# Altium footprint library Lib Pcb.PcbLib: 84 footprints (part 3 of 6)
Each footprint in its own frame and in the unit in brackets; x right, y up, seen from the top. Pads: shape width x height; smd on the part's side, far side on the other; paste and mask are expansions set on the pad; w line width, h text height; cw(c..) or ccw(c..) is an arc to the next point about the centre after c.
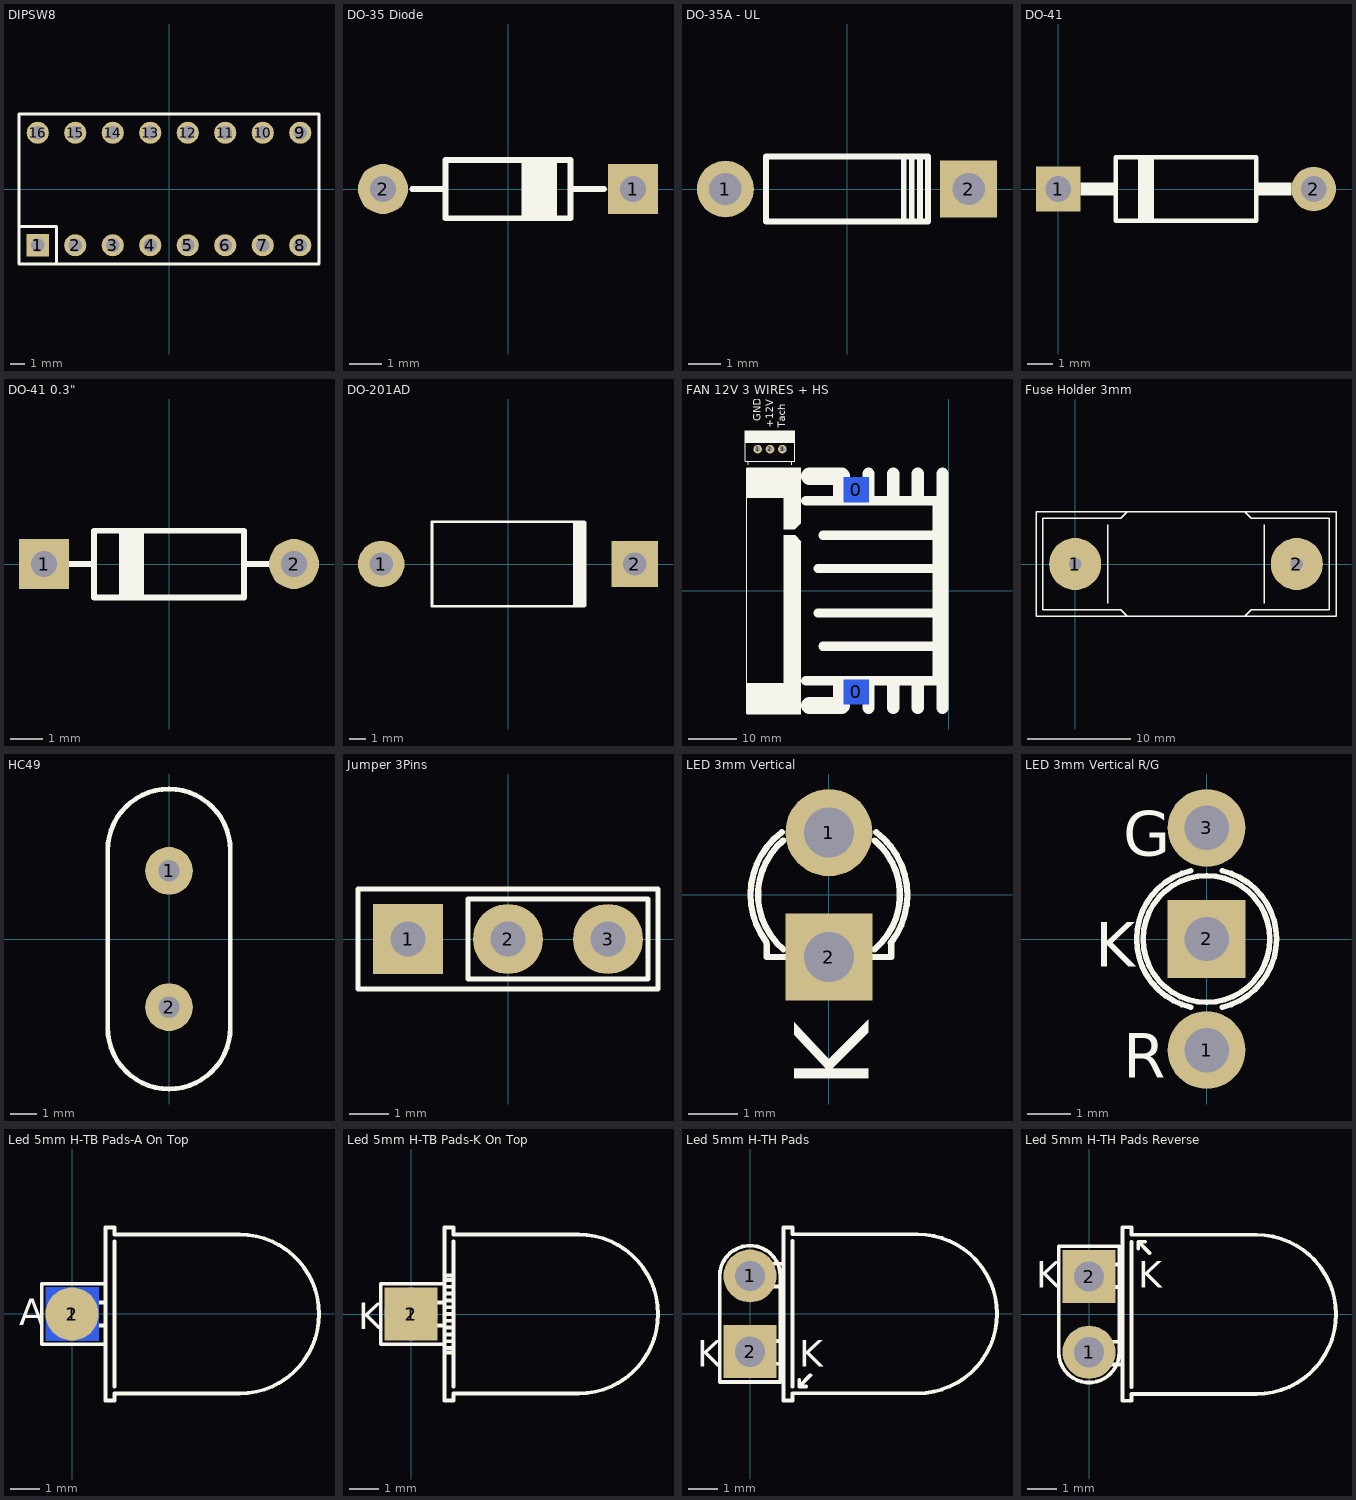
[diagram p2: the footprints below, top view; thin cyan lines are the x and y axes]

## DIPSW8 [mm] "DIP Switch 8 pos"
height 7.62
pads (16):
  rect 1.5x1.5 hole 0.9: 1(-8.89,-3.81)
  round 1.5 hole 0.9: 2(-6.35,-3.81) 3(-3.81,-3.81) 4(-1.27,-3.81) 5(1.27,-3.81) 6(3.81,-3.81) 7(6.35,-3.81) 8(8.89,-3.81) 9(8.89,3.81) 10(6.35,3.81) 11(3.81,3.81) 12(1.27,3.81) 13(-1.27,3.81) 14(-3.81,3.81) 15(-6.35,3.81) 16(-8.89,3.81)
Top Overlay:
  lines w0.178: -10.16,-2.54 -7.62,-2.54 -7.62,-5.08 -7.874,-5.08 ; -10.16,-5.08 -10.16,5.08 10.16,5.08 10.16,-5.08 -10.16,-5.08
3D body: height 7.75, standoff 7.62, extent 8.382,1.905 8.509,2.413
3D body: height 7.75, standoff 7.62, extent 8.636,1.905 8.763,2.413
3D body: height 7.75, standoff 7.62, extent 8.89,1.905 9.017,2.413
3D body: height 7.75, standoff 7.62, extent 9.271,1.905 9.398,2.413
3D body: height 7.75, standoff 7.62, extent 8.89,1.905 9.398,2.413
3D body: height 7.75, standoff 7.62, extent 8.509,1.905 8.636,2.032
3D body: height 7.75, standoff 7.62, extent 8.509,2.286 8.636,2.413
3D body: height 7.75, standoff 7.62, extent 5.842,1.905 5.969,2.413
3D body: height 7.75, standoff 7.62, extent 6.096,1.905 6.223,2.413
3D body: height 7.75, standoff 7.62, extent 6.35,1.905 6.477,2.413
3D body: height 7.75, standoff 7.62, extent 6.731,1.905 6.858,2.413
3D body: height 7.75, standoff 7.62, extent 6.35,1.905 6.858,2.413
3D body: height 7.75, standoff 7.62, extent 5.969,1.905 6.096,2.032
3D body: height 7.75, standoff 7.62, extent 5.969,2.286 6.096,2.413
3D body: height 7.75, standoff 7.62, extent 3.302,1.905 3.429,2.413
3D body: height 7.75, standoff 7.62, extent 3.556,1.905 3.683,2.413
3D body: height 7.75, standoff 7.62, extent 3.81,1.905 3.937,2.413
3D body: height 7.75, standoff 7.62, extent 4.191,1.905 4.318,2.413
3D body: height 7.75, standoff 7.62, extent 3.81,1.905 4.318,2.413
3D body: height 7.75, standoff 7.62, extent 3.429,1.905 3.556,2.032
3D body: height 7.75, standoff 7.62, extent 3.429,2.286 3.556,2.413
3D body: height 7.75, standoff 7.62, extent 0.762,1.905 0.889,2.413
3D body: height 7.75, standoff 7.62, extent 1.016,1.905 1.143,2.413
3D body: height 7.75, standoff 7.62, extent 1.27,1.905 1.397,2.413
3D body: height 7.75, standoff 7.62, extent 1.651,1.905 1.778,2.413
3D body: height 7.75, standoff 7.62, extent 1.27,1.905 1.778,2.413
3D body: height 7.75, standoff 7.62, extent 0.889,1.905 1.016,2.032
3D body: height 7.75, standoff 7.62, extent 0.889,2.286 1.016,2.413
3D body: height 7.75, standoff 7.62, extent -1.778,1.905 -1.651,2.413
3D body: height 7.75, standoff 7.62, extent -1.524,1.905 -1.397,2.413
3D body: height 7.75, standoff 7.62, extent -1.27,1.905 -1.143,2.413
3D body: height 7.75, standoff 7.62, extent -0.889,1.905 -0.762,2.413
3D body: height 7.75, standoff 7.62, extent -1.27,1.905 -0.762,2.413
3D body: height 7.75, standoff 7.62, extent -1.651,1.905 -1.524,2.032
3D body: height 7.75, standoff 7.62, extent -1.651,2.286 -1.524,2.413
3D body: height 7.75, standoff 7.62, extent -4.318,1.905 -4.191,2.413
3D body: height 7.75, standoff 7.62, extent -4.064,1.905 -3.937,2.413
3D body: height 7.75, standoff 7.62, extent -3.81,1.905 -3.683,2.413
3D body: height 7.75, standoff 7.62, extent -3.429,1.905 -3.302,2.413
3D body: height 7.75, standoff 7.62, extent -3.81,1.905 -3.302,2.413
3D body: height 7.75, standoff 7.62, extent -4.191,1.905 -4.064,2.032
3D body: height 7.75, standoff 7.62, extent -4.191,2.286 -4.064,2.413
3D body: height 7.75, standoff 7.62, extent -6.858,1.905 -6.731,2.413
3D body: height 7.75, standoff 7.62, extent -6.604,1.905 -6.477,2.413
3D body: height 7.75, standoff 7.62, extent -6.35,1.905 -6.223,2.413
3D body: height 7.75, standoff 7.62, extent -5.969,1.905 -5.842,2.413
3D body: height 7.75, standoff 7.62, extent -6.35,1.905 -5.842,2.413
3D body: height 7.75, standoff 7.62, extent -6.731,1.905 -6.604,2.032
3D body: height 7.75, standoff 7.62, extent -6.731,2.286 -6.604,2.413
3D body: height 7.75, standoff 7.62, extent -9.271,2.286 -9.144,2.413
3D body: height 7.75, standoff 7.62, extent -9.271,1.905 -9.144,2.032
3D body: height 7.75, standoff 7.62, extent -8.89,1.905 -8.382,2.413
3D body: height 7.75, standoff 7.62, extent -8.509,1.905 -8.382,2.413
3D body: height 7.75, standoff 7.62, extent -8.89,1.905 -8.763,2.413
3D body: height 7.75, standoff 7.62, extent -9.144,1.905 -9.017,2.413
3D body: height 7.75, standoff 7.62, extent -9.398,1.905 -9.271,2.413
3D body: height 0.25, standoff -0.76, extent -9.268,3.43 -8.509,4.19
3D body: height 0.25, standoff -0.76, extent -6.728,3.43 -5.969,4.19
3D body: height 0.25, standoff -0.76, extent -4.188,3.43 -3.429,4.19
3D body: height 0.25, standoff -0.76, extent -1.648,3.43 -0.889,4.19
3D body: height 0.25, standoff -0.76, extent 0.892,3.43 1.651,4.19
3D body: height 0.25, standoff -0.76, extent 3.432,3.43 4.191,4.19
3D body: height 0.25, standoff -0.76, extent -9.268,-4.19 -8.509,-3.43
3D body: height 0.25, standoff -0.76, extent -6.728,-4.19 -5.969,-3.43
3D body: height 0.25, standoff -0.76, extent -4.188,-4.19 -3.429,-3.43
3D body: height 0.25, standoff -0.76, extent -1.648,-4.19 -0.889,-3.43
3D body: height 0.25, standoff -0.76, extent 0.892,-4.19 1.651,-3.43
3D body: height 0.25, standoff -0.76, extent 3.432,-4.19 4.191,-3.43
3D body: height 0.25, standoff -0.76, extent 5.972,-4.19 6.731,-3.43
3D body: height 0.25, standoff -0.76, extent 8.512,-4.19 9.271,-3.43
3D body: height 0.25, standoff -0.76, extent 8.512,3.43 9.271,4.19
3D body: height 0.25, standoff -0.76, extent 5.972,3.43 6.731,4.19
3D body: height 6.35, standoff 0.25, extent -10.16,-5.08 10.16,5.08
3D body: height 7.62, standoff 6.35, extent -9.525,-2.54 -8.255,2.54
3D body: height 7.62, standoff 6.35, extent -6.985,-2.54 -5.715,2.54
3D body: height 7.62, standoff 6.35, extent -4.445,-2.54 -3.175,2.54
3D body: height 7.62, standoff 6.35, extent -1.905,-2.54 -0.635,2.54
3D body: height 7.62, standoff 6.35, extent 0.635,-2.54 1.905,2.54
3D body: height 7.62, standoff 6.35, extent 3.175,-2.54 4.445,2.54
3D body: height 7.62, standoff 6.35, extent 5.715,-2.54 6.985,2.54
3D body: height 7.62, standoff 6.35, extent 8.255,-2.54 9.525,2.54
3D body: height 6.98, standoff 5.71, extent -9.518,-4.442 -8.255,-3.178

## DO-35 Diode [mil] "DO-35 Diode"
height 100
pads (2):
  rect 60x60 hole 31.5: 1(150,0)
  round 60 hole 31.5: 2(-150,0)
Top Overlay:
  rectangle: 16,-32 59,32
  lines w7: -115,0 -75,0 ; 75,0 115,0 ; -75,-35 -75,35 75,35 75,-35 -75,-35
3D body: height 87.01, standoff -70.87, extent -160.24,-39.77 160.23,39.76

## DO-35A - UL [mil]
pads (2):
  round 70 hole 40: 1(-150,0)
  rect 70x70 hole 40: 2(150,0)
Top Overlay:
  lines w7: 70,-40 70,40 ; 80,-40 80,40 ; 90,-40 90,40 ; -100,-40 -100,40 100,40 100,-40 -100,-40
3D body: height 90, standoff 10, extent 65,-45 105,45
3D body: height 70, standoff 30, extent 105,-20 170,20
3D body: height 30, standoff -30, extent 135.06,-20 164.94,9.94
3D body: height 70, standoff 30, extent -170,-20 -105,20
3D body: height 30, standoff -30, extent -164.88,-14.96 -135,14.98
3D body: height 90, standoff 10, extent -105,-45 65,45

## DO-41 [mil] "Diode 400mil Spacin"
height 100
pads (2):
  rect 70x70 hole 40: 1(0,0)
  round 70 hole 40: 2(400,0)
Top Overlay:
  rectangle: 125,-50 150,50
  rectangle: 35,-10 90,10
  rectangle: 310,-10 365,10
  lines w7: 90,-50 90,50 310,50 310,-50 90,-50
3D body: height 131.89, standoff -78.74, extent -16.93,-53.15 416.92,53.15

## DO-41 0.3" [mil] "Diode 0.3\""
height 100
pads (2):
  rect 60x60 hole 31.5: 1(-150,0)
  round 60 hole 31.5: 2(150,0)
Top Overlay:
  rectangle: -60,-40 -30,40
  lines w7: -120,0 -90,0 ; 90,0 120,0 ; -90,-40 -90,40 90,40 90,-40 -90,-40

## DO-201AD [mil]
pads (2):
  round 110 hole 55: 1(-300,0)
  rect 110x110 hole 55: 2(300,0)
Top Overlay:
  rectangle: 154,-100 185.5,100
  lines w7: 180,-100 -180,-100 -180,100 180,100

## FAN 12V 3 WIRES + HS [mil]
pads (5):
  rect 200x200 smd far side: 0(-750,-820) 0(-750,820)
  round 70 hole 40: 1(-1550,1150) 2(-1450,1150) 3(-1350,1150)
Top Overlay:
  rectangle: -130,-750 0,750
  rectangle: -1650,1200 -1250,1300
  region: -1250,450 -1200,400 -1200,-1000 -1640,-1000 -1640,-750 -1340,-750 -1340,450
  region: -1200,1000 -1200,550 -1250,500 -1340,500 -1340,755 -1635,755 -1635,995 -1640,1000
  lines w10: -1640,-995 -1640,995 ; -1625,1025 -1625,1050 ; -1340,450 -1250,450 -1200,400 ; -1275,1025 -1275,1050 ; -1650,1050 -1250,1050 -1250,1300 -1650,1300 -1650,1050
  lines w75: -1160,-730 -100,-730 ; -1160,730 -100,730 ; -1060,-180 -100,-180 ; -1060,180 -100,180 ; -1020,-450 -100,-450 ; -1020,450 -100,450
  lines w100: -650,-950 -650,-750 ; -650,750 -650,950 ; -450,-950 -450,-750 ; -450,750 -450,950 ; -250,-950 -250,-750 ; -250,750 -250,950 ; -50,-950 -50,950
  lines w140: -1130,-930 -870,-930 -870,-770 ; -1130,930 -870,930 -870,770
  text "Tach" at -1325,1325 h60
  text "+12V" at -1425,1325 h60
  text "GND" at -1525,1375 h60

## Fuse Holder 3mm [mm] "Fuse Holder 3mm"
height 10.795
pads (2):
  round 5.08 hole 1.2: 1(0,0) 2(21.59,0)
Top Overlay:
  lines w0.127: 3.175,-3.81 3.175,3.81 ; 5.08,-5.08 4.445,-4.445 -3.175,-4.445 -3.175,4.445 4.445,4.445 5.08,5.08 ; 16.51,-5.08 17.145,-4.445 24.765,-4.445 24.765,4.445 17.145,4.445 16.51,5.08 ; 18.415,-3.81 18.415,3.81 ; -3.81,-5.08 -3.81,5.08 25.4,5.08 25.4,-5.08 -3.81,-5.08
3D body: height 10.79, standoff 0, extent -3.81,-5.08 25.4,5.08

## HC49 [mil] "XTAL LOW PROFILE"
height 135
pads (2):
  round 70 hole 31.5: 1(0,100) 2(0,-100)
Top Overlay:
  lines w7: -90,-130 ccw(c0,-130) 90,-130 90,130 ccw(c0,130) -90,130 -90,-130
3D body: height 151.73, standoff -68.35, extent -91.54,-223.42 91.53,223.43

## Jumper 3Pins [mil] "Jumper 3Pins"
height 500
pads (3):
  rect 70x70 hole 35.4: 1(-100,0)
  round 70 hole 35.4: 2(0,0) 3(100,0)
Top Overlay:
  lines w5: -150,-50 -150,50 150,50 150,-50 -150,-50 ; -40,-40 -40,40 140,40 140,-40 -40,-40
3D body: height 100, standoff 5, extent -150,-50 150,50
3D body: height 400, standoff 105, extent -40,-40 140,40
3D body: height 300, standoff -50, extent -120,-20 -80,20
3D body: height 300, standoff -50, extent -20,-20 20,20
3D body: height 300, standoff -50, extent 80,-20 120,20

## LED 3mm Vertical [mil] "LED 3mm Vertical"
height 190
pads (2):
  round 70 hole 40: 1(0,50)
  rect 70x70 hole 40: 2(0,-50)
Top Overlay:
  lines w5: -50.31,-37.91 cw(c0,0) -37.91,50.31 ; -50,-40 -50,-50 50,-50 50,-40 ; -36.64,-43.66 cw(c0,0) -36.64,43.66 ; 36.64,-43.66 ccw(c0,0) 36.64,43.66 ; 37.91,50.31 cw(c0,0) 49.64,-38.79
  text "K" at 32,-156 h60
3D body: height 242, standoff 118, extent -61.34,-61.72 62.01,61.74
3D body: height 10, standoff -30, extent -14.88,-64.96 15,-35.02
3D body: height 10, standoff -30, extent -14.88,35.06 15,65
3D body: height 185, standoff 10, extent -61.5,-61.87 62.01,61.89
3D body: height 20, standoff 10, extent -50,-75 50,-50
3D body: height 20, standoff 10, extent -68.44,-68.85 69.01,68.87

## LED 3mm Vertical R/G [mil] "LED 3mm Vertical R/G"
height 190
pads (3):
  round 70 hole 40: 1(0,-100) 3(0,100)
  rect 70x70 hole 40: 2(0,0)
Top Overlay:
  circle w5: c0,0 r57
  lines w5: -14.12,61.4 ccw(c0,0) -14.06,-61.41 ; 14.12,61.4 cw(c0,0) 14.18,-61.38
  text "G" at -75,75 h40
  text "R" at -75,-125 h40
  text "K" at -100,-25 h40
3D body: height 50, standoff -30, extent -14.88,85.04 15,114.98
3D body: height 60, standoff 50, extent -68.44,-68.85 69.01,68.87
3D body: height 70, standoff 50, extent -50,-75 50,-50
3D body: height 195, standoff 50, extent -61.5,-61.87 62.01,61.89
3D body: height 50, standoff -30, extent -14.87,-14.96 15.01,14.98
3D body: height 50, standoff -30, extent -14.88,-114.96 15,-85.02
3D body: height 242, standoff 118, extent -61.34,-61.72 62.01,61.74

## Led 5mm H-TB Pads-A On Top [mil] "Led 5mm H-TB Pads-A On Top"
height 400
pads (2):
  rect 70x70 smd far side: 1(0,0)
  rrect100% 70x70 smd: 2(0,0)
Top Overlay:
  lines w5: 43,-40 -40,-40 -40,40 43,40 ; 44,-15 -15,-15 -15,15 44,15 ; 56,-96 56,96 ; 44,-114 44,114 56,114 56,105 221,105 cw(c221,0) 221,-105 56,-105 56,-114 44,-114
  text "A" at -70,-15 h35
3D body: height 40, standoff 0, extent -14.87,-14.97 15.01,14.97
3D body: height 114.09, standoff -115, extent 45,-114.55 55,115
3D body: height 104.17, standoff -105, extent 55,-104.57 230,105.02
3D body: height 40, standoff 0, extent -14.87,-14.97 15.01,14.97
3D body: height 105, standoff -105, extent 120,-104.56 328.99,104.55
3D body: height -100, standoff -125, extent 45,-50 55,50
3D body: height 39.88, standoff 10, extent -14.87,-14.97 45.13,14.97
3D body: height -27.12, standoff -57, extent -15,-15 45,14.93

## Led 5mm H-TB Pads-K On Top [mil] "Led 5mm H-TB Pads-K On Top"
height 400
pads (2):
  rect 70x70 smd: 1(0,0)
  rrect100% 70x70 smd far side: 2(0,0)
Top Overlay:
  lines w5: 43,-40 -40,-40 -40,40 43,40 ; 44,-51 56,-51 ; 44,-45 56,-45 ; 44,-36 56,-36 ; 44,-27 56,-27 ; 44,-18 56,-18 ; 44,-15 -15,-15 -15,15 44,15 ; 44,-9 56,-9 ; 44,0 56,0 ; 44,9 56,9 ; 44,18 56,18 ; 44,27 56,27 ; 44,36 56,36 ; 44,45 56,45 ; 44,51 56,51 ; 56,-96 56,96 ; 44,-114 56,-114 56,-105 221,-105 ccw(c221,0) 221,105 56,105 56,114 44,114 44,-114
  text "K" at -70,-20 h35
3D body: height 40, standoff 0, extent -14.88,-14.96 15.01,14.97
3D body: height 114.09, standoff -115, extent 45,-114.55 55,115
3D body: height 104.17, standoff -105, extent 55,-104.57 230,105.02
3D body: height 40, standoff 0, extent -14.88,-14.96 15,14.98
3D body: height 105, standoff -105, extent 120,-104.55 328.99,104.55
3D body: height 125, standoff 100, extent 45,-50 55,50
3D body: height 39.88, standoff 10, extent -15,-14.94 45,15
3D body: height -27.12, standoff -57, extent -15,-14.97 45,14.97

## Led 5mm H-TH Pads [mil] "Led 5mm H-TH Pads"
height 400
pads (2):
  round 70 hole 40: 1(0,50)
  rect 70x70 hole 40: 2(0,-50)
Top Overlay:
  lines w5: -40,49.72 cw(c0,50) 40,49.69 ; -40,50.03 -40,-90 40,-90 40,50 ; 40,-66 -15,-66 -15,-36 40,-36 ; 40,36 -15,36 -15,66 43,66 ; 56,-96 56,96 ; 74,-96 65,-96 ; 65,-96 65,-87 65,-96 ; 65,-96 80,-81 65,-96 ; 44,-114.55 56,-114.55 56,-105 221,-105 ccw(c221,0) 221,105 56,105 56,114 44,114 44,-114.55
  text "K" at -70,-70 h35
  text "K" at 65,-70 h35
3D body: height 30, standoff -20, extent -14.88,35.04 15,64.98
3D body: height 129.09, standoff -100, extent 45,-114.55 55,115
3D body: height 119.17, standoff -90, extent 55,-104.57 230,105.02
3D body: height 30, standoff -20, extent -14.88,-64.96 15,-35.02
3D body: height 120, standoff -90, extent 120,-104.55 328.99,104.55
3D body: height 60, standoff -30, extent 45,-114.55 55,-14.55
3D body: height 29.88, standoff 0, extent -15,35 45,64.94
3D body: height 29.88, standoff 0, extent -15,-64.97 45,-35.03

## Led 5mm H-TH Pads Reverse [mil] "Led 5mm H-TH Pads Reverse"
height 400
pads (2):
  round 70 hole 40: 1(0,-50)
  rect 70x70 hole 40: 2(0,50)
Top Overlay:
  lines w5: -40,-50 -40,90 40,90 40,-50.03 ; -40,-49.69 ccw(c0,-50) 40,-49.72 ; 44,-66 -15,-66 -15,-36 44,-36 ; 44,36 -15,36 -15,66 44,66 ; 56,-96 56,96 ; 74,96 65,96 ; 80,81 65,96 ; 65,96 65,87 65,96 ; 44,-114 44,115 56,115 56,105 221,105 cw(c221,0) 221,-105 56,-105 56,-114 44,-114
  text "K" at -70,35 h35
  text "K" at 65,35 h35
3D body: height 30, standoff -20, extent -14.88,35.04 15,64.98
3D body: height 129.09, standoff -100, extent 45,-114.55 55,115
3D body: height 119.17, standoff -90, extent 55,-104.57 230,105.02
3D body: height 30, standoff -20, extent -14.88,-64.96 15,-35.02
3D body: height 120, standoff -90, extent 120,-104.55 328.99,104.55
3D body: height 60, standoff -30, extent 45,15 55,115
3D body: height 29.88, standoff 0, extent -15,35.03 45,64.97
3D body: height 29.88, standoff 0, extent -15,-65 45,-35.06